# EAGLE library part SPBT2632C2A (library SPBT2632C2A)
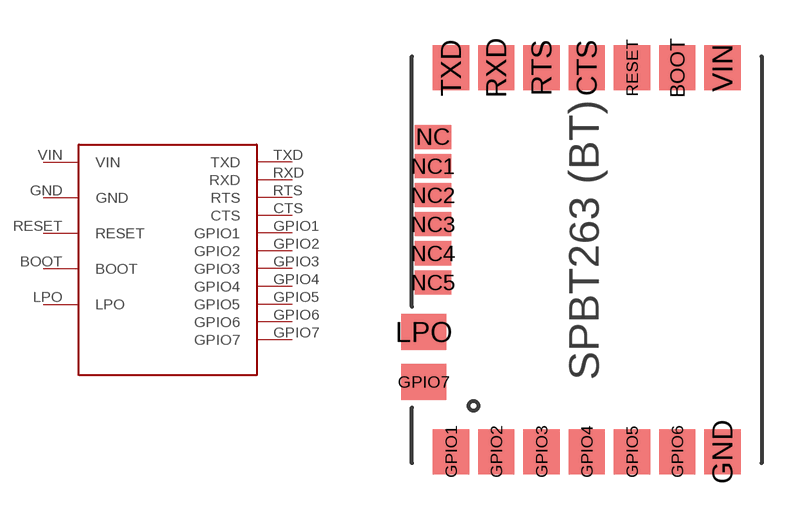
[diagram p0: symbol with the pads of SPBT2632C2A; footprint SPBT2632C2A]

Designator prefix -

## SPBT2632C2A  [SPBT2632C2A]
BOOT  BOOT
CTS  CTS
GND  GND
GPIO1  GPIO1
GPIO2  GPIO2
GPIO3  GPIO3
GPIO4  GPIO4
GPIO5  GPIO5
GPIO6  GPIO6
GPIO7  GPIO7
LPO  LPO
RESET  RESET
RTS  RTS
RXD  RXD
TXD  TXD
VIN  VIN

## Footprint SPBT2632C2A (pad centres in mm)
smd 1.2 x 1.5: BOOT 3,6.37; CTS 0,6.37; GND 4.5,-6.37; GPIO1 -4.5,-6.37; GPIO2 -3,-6.37; GPIO3 -1.5,-6.37; GPIO4 0,-6.37; GPIO5 1.5,-6.37; GPIO6 3,-6.37; RESET 1.5,6.37; RTS -1.5,6.37; RXD -3,6.37; TXD -4.5,6.37; VIN 4.5,6.37
smd 1.5 x 1.2: GPIO7 -5.4,-4.05; LPO -5.4,-2.4
smd 1.2 x 0.8: NC -5.1,4.075; NC1 -5.1,3.11; NC2 -5.1,2.145; NC3 -5.1,1.18; NC4 -5.1,0.215; NC5 -5.1,-0.75